# Altium footprint library PcbLib.PcbLib: 39 footprints (part 1 of 3)
Each footprint in its own frame and in the unit in brackets; x right, y up, seen from the top. Pads: shape width x height; smd on the part's side, far side on the other; paste and mask are expansions set on the pad; w line width, h text height; cw(c..) or ccw(c..) is an arc to the next point about the centre after c.
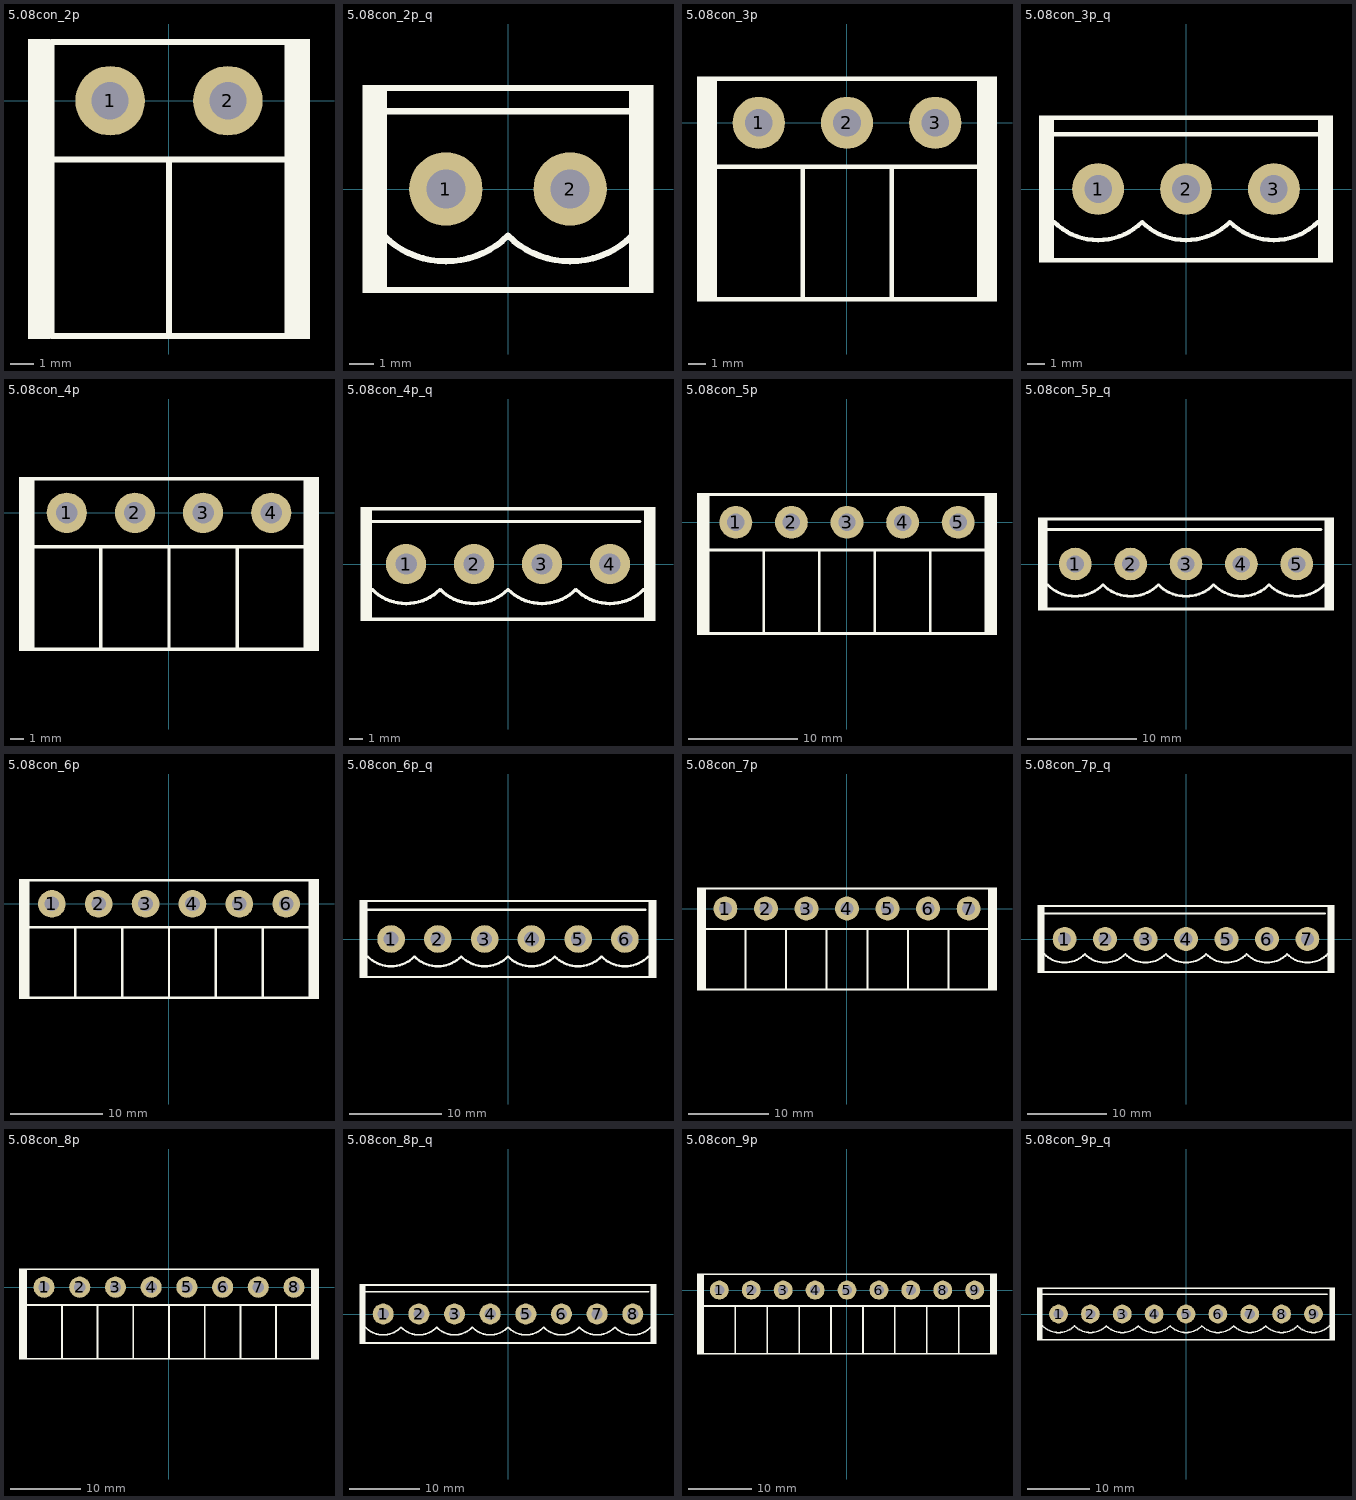
[diagram p0: the footprints below, top view; thin cyan lines are the x and y axes]

## 5.08con_2p [mm]
pads (2):
  round 3 hole 1.6: 1(-2.54,0) 2(2.54,0)
Top Overlay:
  region: -5.131,2.667 -6.096,2.667 -6.096,-10.287 -5.131,-10.287
  rectangle: 5.131,-10.287 6.096,2.667
  lines w0.254: 0,-10.16 0,-2.54 ; 5.113,-5.08 5.113,2.54 -5.08,2.54 -5.08,-10.16 ; -5.08,-10.16 5.113,-10.16 5.113,-2.54 -5.08,-2.54 -5.08,-10.16

## 5.08con_2p_q [mm]
pads (2):
  round 3 hole 1.6: 1(-2.54,0) 2(2.54,0)
Top Overlay:
  region: -5.08,4.255 -5.95,4.255 -5.95,-4.255 -5.08,-4.255
  rectangle: 5.08,-4.255 5.95,4.255
  lines w0.254: -5.08,-1.905 ccw(c-2.54,0.635) 0,-1.905 ccw(c2.54,0.635) 5.08,-1.905 ; -5.08,3.175 5.08,3.175 ; -5.08,-4.127 5.08,-4.127 5.08,4.127 -5.08,4.127 -5.08,-4.127

## 5.08con_3p [mm]
pads (3):
  round 3 hole 1.6: 1(-5.08,0) 2(0,0) 3(5.08,0)
Top Overlay:
  region: -7.671,2.667 -8.636,2.667 -8.636,-10.287 -7.671,-10.287
  rectangle: 7.671,-10.287 8.636,2.667
  lines w0.254: -2.54,2.54 7.62,2.54 7.62,-10.16 -2.54,-10.16 -2.54,-2.54 7.62,-2.54 ; 2.573,2.54 -7.62,2.54 -7.62,-10.16 ; -7.62,-10.16 -7.62,-2.54 2.573,-2.54 2.573,-10.16 -7.62,-10.16

## 5.08con_3p_q [mm]
pads (3):
  round 3 hole 1.6: 1(-5.08,0) 2(0,0) 3(5.08,0)
Top Overlay:
  rectangle: 7.62,-4.255 8.49,4.255
  region: -7.62,4.255 -8.49,4.255 -8.49,-4.255 -7.62,-4.255
  lines w0.254: -7.62,-4.127 2.54,-4.127 7.62,-4.127 ; -7.62,-1.905 ccw(c-5.08,0.635) -2.54,-1.905 ccw(c0,0.635) 2.54,-1.905 ccw(c5.08,0.635) 7.62,-1.905 ; -7.62,3.175 2.54,3.175 8.255,3.175 ; -7.62,4.127 2.54,4.127 7.62,4.127

## 5.08con_4p [mm]
pads (4):
  round 3 hole 1.6: 1(-7.62,0) 2(-2.54,0) 3(2.54,0) 4(7.62,0)
Top Overlay:
  rectangle: 10.211,-10.287 11.176,2.667
  region: -10.211,2.667 -11.176,2.667 -11.176,-10.287 -10.211,-10.287
  lines w0.254: -5.08,-10.16 -5.08,-2.54 ; 0,-10.16 0,-2.54 ; 5.08,-10.16 5.08,-2.54 ; -10.16,-10.16 10.16,-10.16 ; -10.16,-10.16 -10.16,2.54 10.16,2.54 10.16,-2.54 ; -10.16,-10.16 -10.16,-2.54 10.16,-2.54 ; 10.16,-10.16 10.16,-2.54 ; 10.16,-10.16 10.16,-2.54

## 5.08con_4p_q [mm]
pads (4):
  round 3 hole 1.6: 1(-7.62,0) 2(-2.54,0) 3(2.54,0) 4(7.62,0)
Top Overlay:
  rectangle: 10.16,-4.255 11.03,4.255
  region: -10.16,4.255 -11.03,4.255 -11.03,-4.255 -10.16,-4.255
  lines w0.254: -10.16,-4.127 0,-4.127 5.08,-4.127 10.16,-4.127 ; -10.16,-1.905 ccw(c-7.62,0.635) -5.08,-1.905 ccw(c-2.54,0.635) 0,-1.905 ccw(c2.54,0.635) 5.08,-1.905 ccw(c7.62,0.635) 10.16,-1.905 ; -10.16,3.175 0,3.175 4.763,3.175 ; -10.16,4.127 0,4.127 5.08,4.127 10.16,4.127 ; 9.842,3.175 5.08,3.175 ; 4.763,3.175 5.08,3.175 ; 4.763,3.175 5.08,3.175 ; 4.763,3.175 5.08,3.175 ; 4.763,3.175 5.08,3.175

## 5.08con_5p [mm]
pads (5):
  round 3 hole 1.6: 1(-10.16,0) 2(-5.08,0) 3(0,0) 4(5.08,0) 5(10.16,0)
Top Overlay:
  rectangle: 12.751,-10.287 13.716,2.667
  region: -12.751,2.667 -13.716,2.667 -13.716,-10.287 -12.751,-10.287
  lines w0.254: -7.62,-10.16 -7.62,-2.54 ; -2.54,-10.16 -2.54,-2.54 ; 2.54,2.54 12.7,2.54 12.7,-2.54 ; 2.558,2.54 -12.7,2.54 -12.7,-10.16 ; 7.62,-10.16 7.62,-2.54 ; -12.7,-10.16 2.54,-10.16 ; -12.7,-10.16 -12.7,-2.54 2.54,-2.54 ; 2.54,-10.16 12.7,-10.16 12.7,-2.54 ; 2.54,-10.16 2.54,-2.54 ; 2.54,-10.16 2.54,-2.54 ; 2.54,-10.16 2.54,-2.54 ; 2.54,-2.54 12.7,-2.54

## 5.08con_5p_q [mm]
pads (5):
  round 3 hole 1.6: 1(-10.16,0) 2(-5.08,0) 3(0,0) 4(5.08,0) 5(10.16,0)
Top Overlay:
  rectangle: 12.7,-4.255 13.57,4.255
  region: -12.7,4.255 -13.57,4.255 -13.57,-4.255 -12.7,-4.255
  lines w0.254: -12.7,-4.127 -2.54,-4.127 2.54,-4.127 7.62,-4.127 12.7,-4.127 ; -12.7,-1.905 ccw(c-10.16,0.635) -7.62,-1.905 ccw(c-5.08,0.635) -2.54,-1.905 ccw(c0,0.635) 2.54,-1.905 ccw(c5.08,0.635) 7.62,-1.905 ccw(c10.16,0.635) 12.7,-1.905 ; -12.7,3.175 -2.54,3.175 2.222,3.175 2.54,3.175 7.302,3.175 ; -12.7,4.127 -2.54,4.127 2.54,4.127 7.62,4.127 12.7,4.127 ; 12.383,3.175 7.62,3.175 ; 7.302,3.175 7.62,3.175 ; 7.302,3.175 7.62,3.175

## 5.08con_6p [mm]
pads (6):
  round 3 hole 1.6: 1(-12.7,0) 2(-7.62,0) 3(-2.54,0) 4(2.54,0) 5(7.62,0) 6(12.7,0)
Top Overlay:
  rectangle: 15.291,-10.287 16.256,2.667
  region: -15.291,2.667 -16.256,2.667 -16.256,-10.287 -15.291,-10.287
  lines w0.254: -10.16,-10.16 -10.16,-2.54 ; -5.08,-10.16 -5.08,-2.54 ; 0,-10.16 0,-2.54 ; 5.08,-10.16 5.08,-2.54 ; 10.16,-10.16 10.16,-2.54 ; 15.24,-2.54 -15.24,-2.54 -15.24,-10.16 ; -15.24,-10.16 15.24,-10.16 15.24,2.54 -15.24,2.54 -15.24,-10.16

## 5.08con_6p_q [mm]
pads (6):
  round 3 hole 1.6: 1(-12.7,0) 2(-7.62,0) 3(-2.54,0) 4(2.54,0) 5(7.62,0) 6(12.7,0)
Top Overlay:
  region: -15.24,4.255 -16.11,4.255 -16.11,-4.255 -15.24,-4.255
  rectangle: 15.24,-4.255 16.11,4.255
  lines w0.254: -15.24,-4.127 -5.08,-4.127 0,-4.127 5.08,-4.127 10.16,-4.127 15.24,-4.127 ; -15.24,-1.905 ccw(c-12.7,0.635) -10.16,-1.905 ccw(c-7.62,0.635) -5.08,-1.905 ccw(c-2.54,0.635) 0,-1.905 ccw(c2.54,0.635) 5.08,-1.905 ccw(c7.62,0.635) 10.16,-1.905 ccw(c12.7,0.635) 15.24,-1.905 ; -15.24,3.175 -5.08,3.175 -0.318,3.175 0,3.175 4.763,3.175 ; -15.24,4.127 -5.08,4.127 0,4.127 5.08,4.127 10.16,4.127 15.24,4.127 ; 14.922,3.175 10.16,3.175 ; 4.763,3.175 5.08,3.175 ; 4.763,3.175 5.08,3.175 ; 5.08,3.175 9.842,3.175 ; 9.842,3.175 10.16,3.175 ; 9.842,3.175 10.16,3.175 ; 9.842,3.175 10.16,3.175

## 5.08con_7p [mm]
pads (7):
  round 3 hole 1.6: 1(-15.24,0) 2(-10.16,0) 3(-5.08,0) 4(0,0) 5(5.08,0) 6(10.16,0) 7(15.24,0)
Top Overlay:
  rectangle: 17.831,-10.287 18.796,2.667
  region: -17.831,2.667 -18.796,2.667 -18.796,-10.287 -17.831,-10.287
  lines w0.254: -12.7,-10.16 -12.7,-2.54 ; -7.62,-10.16 -7.62,-2.54 ; -2.54,2.54 17.78,2.54 17.78,-2.54 ; -2.522,2.54 -17.78,2.54 -17.78,-10.16 ; 2.54,-10.16 2.54,-2.54 ; 7.62,-10.16 7.62,-2.54 ; 12.7,-10.16 12.7,-2.54 ; -17.78,-10.16 -2.54,-10.16 ; -17.78,-10.16 -17.78,-2.54 -2.54,-2.54 ; -2.54,-10.16 17.78,-10.16 ; -2.54,-10.16 -2.54,-2.54 ; -2.54,-10.16 -2.54,-2.54 ; -2.54,-10.16 -2.54,-2.54 ; -2.54,-2.54 17.78,-2.54 ; 17.78,-10.16 17.78,-2.54 ; 17.78,-10.16 17.78,-2.54

## 5.08con_7p_q [mm]
pads (7):
  round 3 hole 1.6: 1(-15.24,0) 2(-10.16,0) 3(-5.08,0) 4(0,0) 5(5.08,0) 6(10.16,0) 7(15.24,0)
Top Overlay:
  region: -17.78,4.255 -18.65,4.255 -18.65,-4.255 -17.78,-4.255
  rectangle: 17.78,-4.255 18.65,4.255
  lines w0.254: -17.78,-4.127 -7.62,-4.127 -2.54,-4.127 2.54,-4.127 7.62,-4.127 12.7,-4.127 17.78,-4.127 ; -17.78,-1.905 ccw(c-15.24,0.635) -12.7,-1.905 ccw(c-10.16,0.635) -7.62,-1.905 ccw(c-5.08,0.635) -2.54,-1.905 ccw(c0,0.635) 2.54,-1.905 ccw(c5.08,0.635) 7.62,-1.905 ccw(c10.16,0.635) 12.7,-1.905 ccw(c15.24,0.635) 17.78,-1.905 ; -17.78,3.175 -7.62,3.175 -2.857,3.175 -2.54,3.175 2.222,3.175 ; -17.78,4.127 -7.62,4.127 -2.54,4.127 2.54,4.127 7.62,4.127 12.7,4.127 17.78,4.127 ; 17.462,3.175 12.7,3.175 ; 2.222,3.175 2.54,3.175 ; 2.222,3.175 2.54,3.175 ; 2.54,3.175 7.302,3.175 ; 7.302,3.175 7.62,3.175 ; 7.302,3.175 7.62,3.175 ; 7.302,3.175 7.62,3.175 ; 7.62,3.175 12.383,3.175 ; 12.383,3.175 12.7,3.175 ; 12.383,3.175 12.7,3.175 ; 12.383,3.175 12.7,3.175 ; 12.383,3.175 12.7,3.175

## 5.08con_8p [mm]
pads (8):
  round 3 hole 1.6: 1(-17.775,0) 2(-12.695,0) 3(-7.615,0) 4(-2.535,0) 5(2.545,0) 6(7.625,0) 7(12.695,0) 8(17.775,0)
Top Overlay:
  rectangle: 20.366,-10.287 21.331,2.667
  region: -20.366,2.667 -21.331,2.667 -21.331,-10.287 -20.366,-10.287
  lines w0.254: -15.235,-10.16 -15.235,-2.54 ; -10.155,-10.16 -10.155,-2.54 ; -5.075,-10.16 -5.075,-2.54 ; 0.005,-10.16 0.005,-2.54 ; 5.085,-10.16 5.085,-2.54 ; 15.235,-10.16 15.235,-2.54 ; -20.315,-10.16 10.165,-10.16 ; -20.315,-10.16 -20.315,-2.54 10.165,-2.54 ; -20.315,-10.16 -20.315,2.54 10.165,2.54 20.315,2.54 20.315,-2.54 ; 10.165,-10.16 10.165,-2.54 ; 10.165,-10.16 20.315,-10.16 20.315,-2.54 ; 10.165,-2.54 20.315,-2.54 ; 20.315,-2.54 20.315,-2.54

## 5.08con_8p_q [mm]
pads (8):
  round 3 hole 1.6: 1(-17.78,0) 2(-12.7,0) 3(-7.62,0) 4(-2.54,0) 5(2.54,0) 6(7.62,0) 7(12.7,0) 8(17.78,0)
Top Overlay:
  rectangle: 20.32,-4.255 21.19,4.255
  region: -20.32,4.255 -21.19,4.255 -21.19,-4.255 -20.32,-4.255
  lines w0.254: -20.32,-4.127 -10.16,-4.127 -5.08,-4.127 0,-4.127 5.08,-4.127 10.16,-4.127 15.24,-4.127 20.32,-4.127 ; -20.32,-1.905 ccw(c-17.78,0.635) -15.24,-1.905 ccw(c-12.7,0.635) -10.16,-1.905 ccw(c-7.62,0.635) -5.08,-1.905 ccw(c-2.54,0.635) 0,-1.905 ccw(c2.54,0.635) 5.08,-1.905 ccw(c7.62,0.635) 10.16,-1.905 ccw(c12.7,0.635) 15.24,-1.905 ccw(c17.78,0.635) 20.32,-1.905 ; -20.32,3.175 -10.16,3.175 -5.397,3.175 -5.08,3.175 -0.318,3.175 ; -20.32,4.127 -10.16,4.127 -5.08,4.127 0,4.127 5.08,4.127 10.16,4.127 15.24,4.127 20.32,4.127 ; 20.002,3.175 15.24,3.175 ; -0.318,3.175 0,3.175 ; -0.318,3.175 0,3.175 ; 0,3.175 4.763,3.175 ; 4.763,3.175 5.08,3.175 ; 4.763,3.175 5.08,3.175 ; 4.763,3.175 5.08,3.175 ; 5.08,3.175 9.842,3.175 ; 9.842,3.175 10.16,3.175 ; 9.842,3.175 10.16,3.175 ; 9.842,3.175 10.16,3.175 ; 9.842,3.175 10.16,3.175 ; 10.16,3.175 14.922,3.175 ; 14.922,3.175 15.24,3.175 ; 14.922,3.175 15.24,3.175 ; 14.922,3.175 15.24,3.175 ; 14.922,3.175 15.24,3.175 ; 14.922,3.175 15.24,3.175

## 5.08con_9p [mm]
pads (9):
  round 3 hole 1.6: 1(-20.32,0) 2(-15.24,0) 3(-10.16,0) 4(-5.08,0) 5(0,0) 6(5.08,0) 7(10.16,0) 8(15.24,0) 9(20.32,0)
Top Overlay:
  region: -22.911,2.667 -23.876,2.667 -23.876,-10.287 -22.911,-10.287
  rectangle: 22.911,-10.287 23.876,2.667
  lines w0.254: -17.78,-10.16 -17.78,-2.54 ; -12.7,-10.16 -12.7,-2.54 ; -7.62,-10.16 -7.62,-2.54 ; -2.54,-10.16 -2.54,-2.54 ; 2.54,-10.16 2.54,-2.54 ; 7.62,-10.16 7.62,-2.54 ; 12.7,-10.16 12.7,-2.54 ; 17.78,-10.16 17.78,-2.54 ; -22.86,-10.16 22.86,-10.16 22.86,-2.54 ; -22.86,-10.16 -22.86,2.54 22.86,2.54 22.86,-2.54 ; -22.86,-10.16 -22.86,-2.54 22.86,-2.54

## 5.08con_9p_q [mm]
pads (9):
  round 3 hole 1.6: 1(-20.32,0) 2(-15.24,0) 3(-10.16,0) 4(-5.08,0) 5(0,0) 6(5.08,0) 7(10.16,0) 8(15.24,0) 9(20.32,0)
Top Overlay:
  region: -22.86,4.255 -23.73,4.255 -23.73,-4.255 -22.86,-4.255
  rectangle: 22.86,-4.255 23.73,4.255
  lines w0.254: -22.86,-4.127 -12.7,-4.127 -7.62,-4.127 -2.54,-4.127 2.54,-4.127 7.62,-4.127 12.7,-4.127 17.78,-4.127 22.86,-4.127 ; -22.86,-1.905 ccw(c-20.32,0.635) -17.78,-1.905 ccw(c-15.24,0.635) -12.7,-1.905 ccw(c-10.16,0.635) -7.62,-1.905 ccw(c-5.08,0.635) -2.54,-1.905 ccw(c0,0.635) 2.54,-1.905 ccw(c5.08,0.635) 7.62,-1.905 ccw(c10.16,0.635) 12.7,-1.905 ccw(c15.24,0.635) 17.78,-1.905 ccw(c20.32,0.635) 22.86,-1.905 ; -22.86,3.175 -12.7,3.175 -7.938,3.175 -7.62,3.175 -2.857,3.175 ; -22.86,4.127 -12.7,4.127 -7.62,4.127 -2.54,4.127 2.54,4.127 7.62,4.127 12.7,4.127 17.78,4.127 22.86,4.127 ; 22.543,3.175 17.78,3.175 ; -2.857,3.175 -2.54,3.175 ; -2.857,3.175 -2.54,3.175 ; -2.54,3.175 2.222,3.175 ; 2.222,3.175 2.54,3.175 ; 2.222,3.175 2.54,3.175 ; 2.222,3.175 2.54,3.175 ; 2.54,3.175 7.302,3.175 ; 7.302,3.175 7.62,3.175 ; 7.302,3.175 7.62,3.175 ; 7.302,3.175 7.62,3.175 ; 7.302,3.175 7.62,3.175 ; 7.62,3.175 12.383,3.175 ; 12.383,3.175 12.7,3.175 ; 12.383,3.175 12.7,3.175 ; 12.383,3.175 12.7,3.175 ; 12.383,3.175 12.7,3.175 ; 12.383,3.175 12.7,3.175 ; 12.7,3.175 17.462,3.175 ; 17.462,3.175 17.78,3.175 ; 17.462,3.175 17.78,3.175 ; 17.462,3.175 17.78,3.175 ; 17.462,3.175 17.78,3.175 ; 17.462,3.175 17.78,3.175